# Altium schematic symbol library magnetic.SchLib: 4 symbols
Pins are listed as number, name and electrical type; pins without a type are passive.

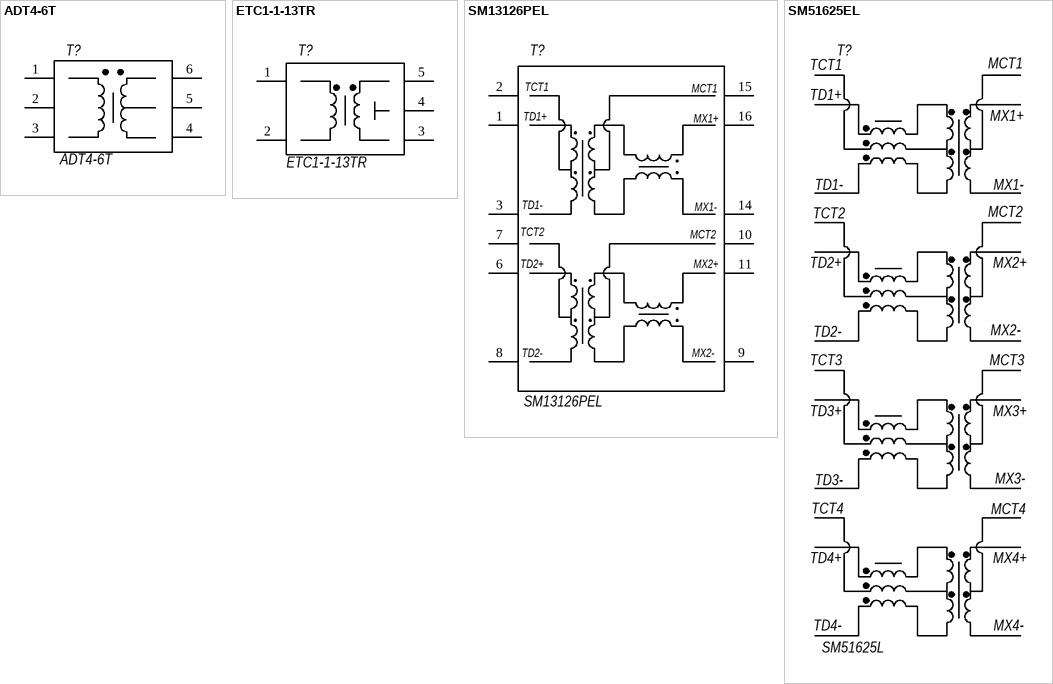
[diagram p0: symbols ADT4-6T to SM51625EL]

## ADT4-6T
designator T?
ADT4-6T+ RF Transformer, Surface Mount 0.06 to 300 MHz; Manufacturer: Mini-Circuits; ValueBOM: ADT4-6T   Mini-Circuits; Value: ADT4-6T; Part Number: ADT4-6T; Package: ADT4-6T; BOM1: ADT4-6T; BOM2: ADT4-6T
footprint ADT4-6T+
pins: 1, 2, 3, 4, 5, 6

## ETC1-1-13TR
designator T?
ETC1-1-13TR  E-Series Transformer, RF 1:1 Transmission Line 4.5 - 3000 MHz; Manufacturer: MACOM; ValueBOM: ETC1-1-13TR   MACOM; Value: ETC1-1-13TR; Part Number: ETC1-1-13TR; Package: SM51625L; BOM1: ETC1-1-13TR; BOM2: ETC1-1-13TR
footprint ETC1-1-13TR
pins: 1, 2, 3, 4, 5

## SM13126PEL
designator T?
SM13126PEL LAN 10/100 Base-T (PoE) Transformer; Manufacturer: Bourns; ValueBOM: SM13126PEL   Bourns; Value: SM13126PEL; Part Number: SM13126PEL; Package: SM13126PEL; BOM1: SM13126PEL; BOM2: SM13126PEL
footprint SM13126PEL
pins: 1, 2, 3, 6, 7, 8, 9, 10, 11, 14, 15, 16
text: TCT1; MCT1; TD1+; MX1+; TD1-; MX1-; TCT2; MCT2; TD2+; MX2+; TD2-; MX2-

## SM51625EL
designator T?, comment SM51625L
SM51625EL LAN 10/100/1000 Base-T (PoE++) Transformer; Manufacturer: Bourns; ValueBOM: SM51625EL   Bourns; Value: SM51625L; Part Number: SM51625EL; Package: SM51625L; BOM1: SM51625L; BOM2: SM51625L
footprint XFMR_SM51625EL
pins: 1, 2, 3, 4, 5, 6, 7, 8, 9, 10, 11, 12, 13, 14, 15, 16, 17, 18, 19, 20, 21, 22, 23, 24
text: MCT1; TCT1; TD1+; MX1+; TD1-; MX1-; TCT2; MCT2; TD2+; MX2+; TD2-; MX2-; TCT3; MCT3; TD3+; MX3+; TD3-; MX3-; TCT4; MCT4; TD4+; MX4+; TD4-; MX4-